# EAGLE library part WS2821B(14PIN) (library DECADE-libraries20151104)
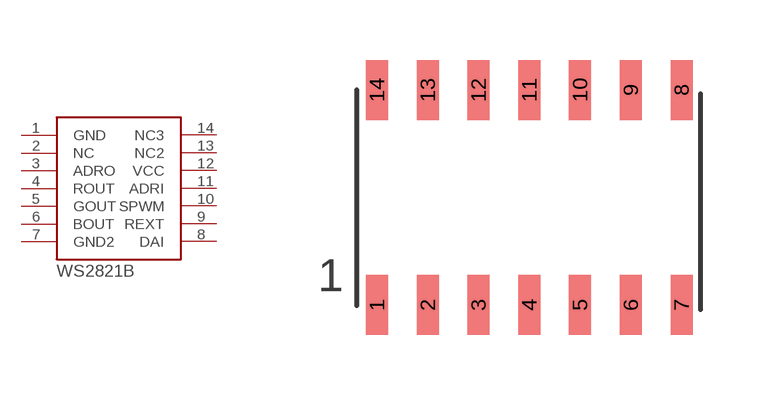
[diagram p129: symbol with the pads of DECADE-SO-14; footprint DECADE-SO-14]

Designator prefix -

## WS2821B(14PIN)  [DECADE-SO-14]
1  GND
2  NC
3  ADRO
4  ROUT
5  GOUT
6  BOUT
7  GND2
8  DAI
9  REXT
10  SPWM
11  ADRI
12  VCC
13  NC2
14  NC3

## Footprint DECADE-SO-14 (pad centres in mm)
smd 0.55 x 1.5: 1 -3.6,-2.88; 2 -2.33,-2.88; 3 -1.06,-2.88; 4 0.21,-2.88; 5 1.48,-2.88; 6 2.75,-2.88; 7 4.02,-2.88; 8 4.02,2.5; 9 2.75,2.5; 10 1.48,2.5; 11 0.21,2.5; 12 -1.06,2.5; 13 -2.33,2.5; 14 -3.6,2.5